# EAGLE library part SPI_FLASH (library Domino)
SPI Flash Memory Footprint
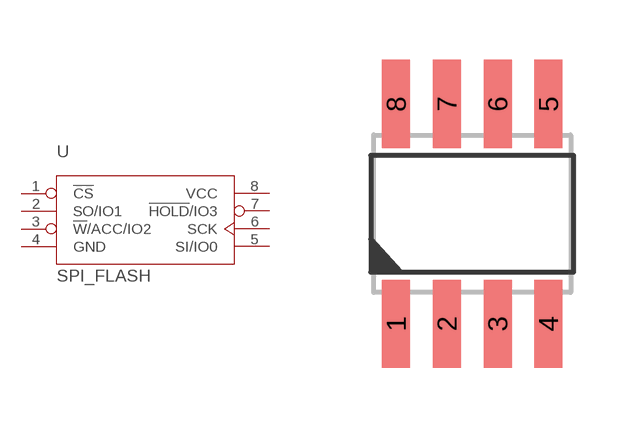
[diagram p39: symbol with the pads of SOIC-8; footprint SOIC-8]

Designator prefix U

## SPI_FLASH  [SOIC-8]
1  !CS  in
2  SO/IO1
3  !W!/ACC/IO2
4  GND  pwr
5  SI/IO0
6  SCK  in
7  !HOLD!/IO3
8  VCC  pwr

## Footprint SOIC-8 (pad centres in mm)
Small Outline Integrated Circuit (SOIC), 8 Pins
smd 0.7 x 2.2: 1 -1.905,-2.75; 2 -0.635,-2.75; 3 0.635,-2.75; 4 1.905,-2.75; 5 1.905,2.75; 6 0.635,2.75; 7 -0.635,2.75; 8 -1.905,2.75